# Altium integrated library Actel ProASIC3.IntLib: 427 symbols (part 16 of 68)
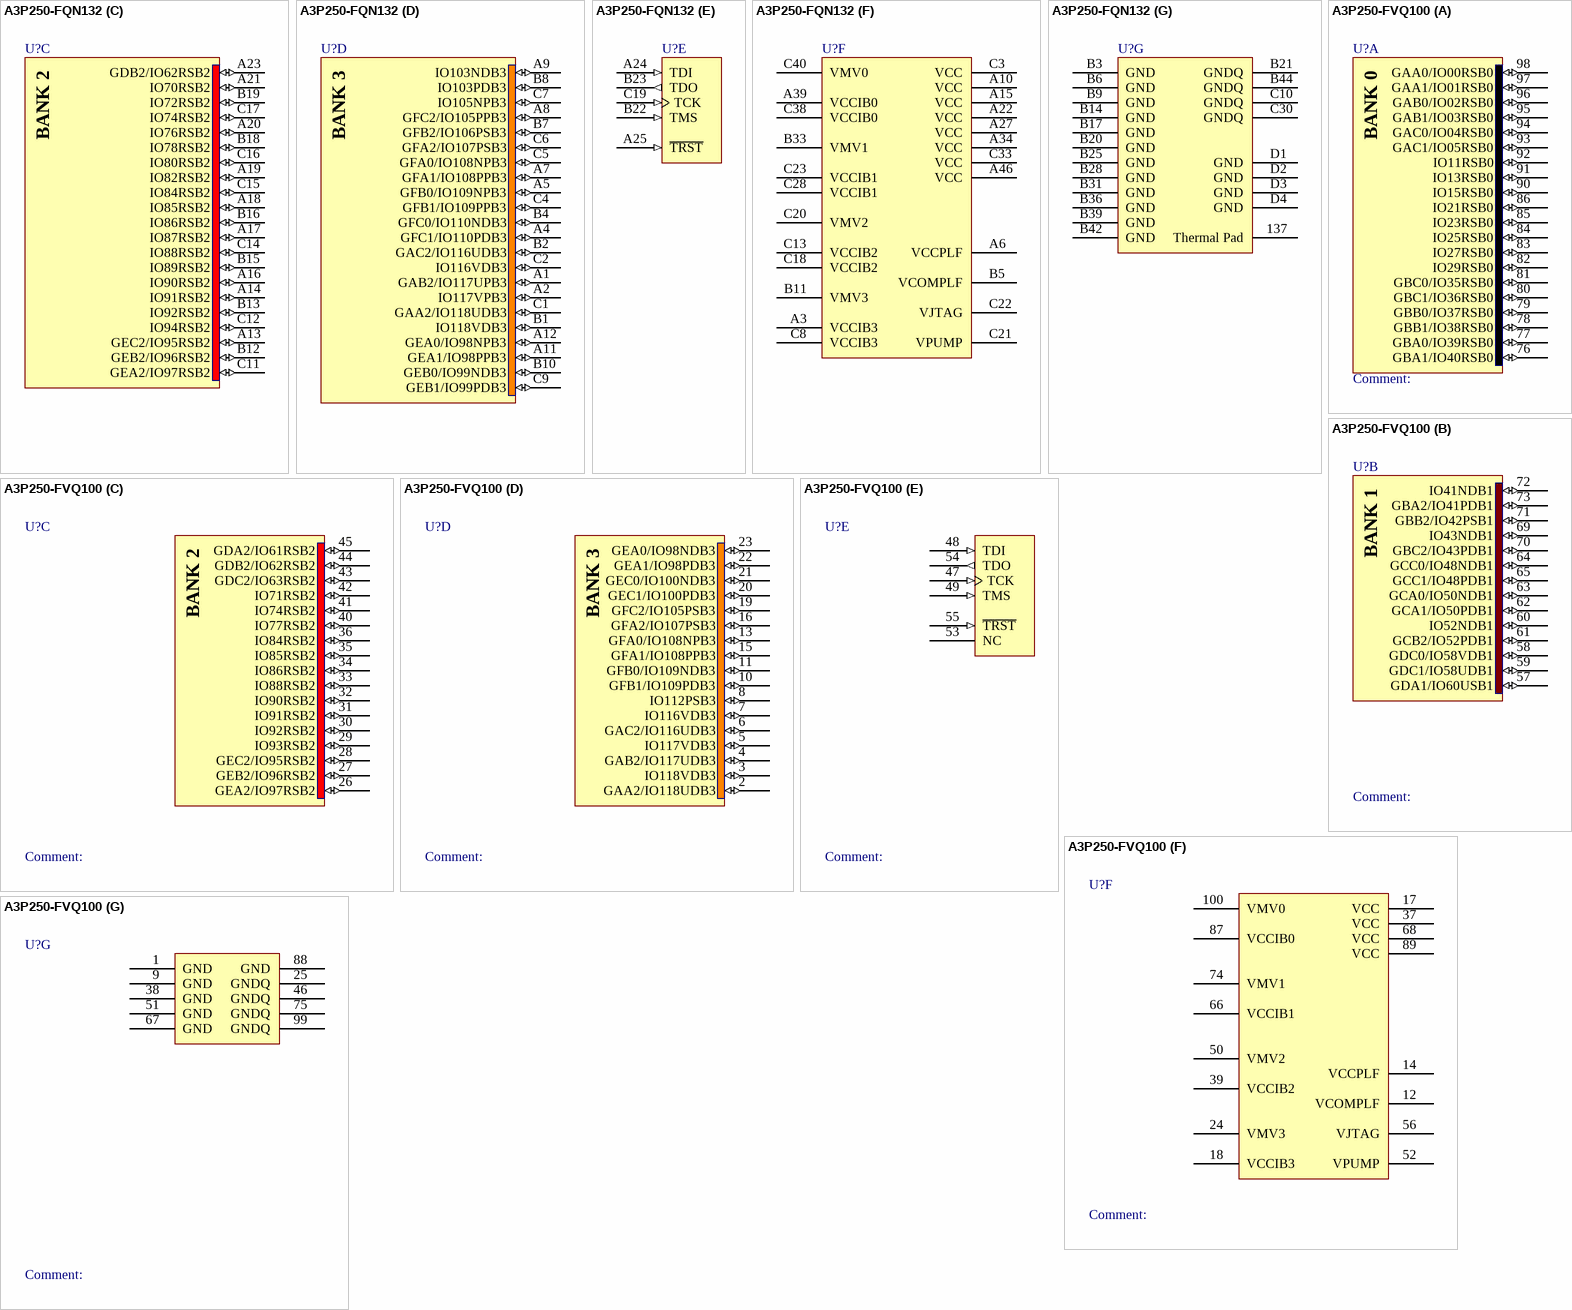
[diagram p408: symbols A3P250-FQN132 to A3P250-FVQ100]

## A3P250-FQN132
designator U?
ProASIC3 Flash Family FPGA, 87 User IOs, 250K System Gates, 36 Kbits RAM, 1 Kbit ProASIC3 Flash ROM, 1 PLL, 132-Pin QFN, Commercial Grade; Published: 30-Mar-2007; DatasheetVersion: v1.1, Feb-2009; PackageVersion: v11.0, Feb-2009; PackageReference: QN132; Publisher: Altium Limited; PackageDescription: 132-Pin Quad Flat Pack No-Leads (QN132); ComponentLink1Description: Manufacturer Link; ComponentLink1URL: http://www.actel.com/products/pa3/; ComponentLink2Description: Datasheet; ComponentLink2URL: http://www.actel.com/documents/PA3_DS.pdf; ComponentLink3Description: Packaging Specification; ComponentLink3URL: http://www.actel.com/documents/PckgMechDrwngs.pdf
footprint QN132 (QFN, 132-Leads, Body 8x8mm, Pitch 0.5mm)
3D model A3P250-QN132 (132-Pin Quad Flat Pack No-Leads (QN132))
signal-integrity model A3P250_QN132 (ProASIC3)
part A pins:  A37 GBB1/IO38RSB0 (io),  A38 GBC0/IO35RSB0 (io),  A40 IO28RSB0 (io),  A41 IO22RSB0 (io),  A42 IO18RSB0 (io),  A43 IO14RSB0 (io),  A44 IO11RSB0 (io),  A45 IO07RSB0 (io),  A47 GAC1/IO05RSB0 (io),  A48 GAB0/IO02RSB0 (io),  B34 GBA0/IO39RSB0 (io),  B35 GBC1/IO36RSB0 (io),  B37 IO26RSB0 (io),  B38 IO21RSB0 (io),  B40 IO13RSB0 (io),  B41 IO08RSB0 (io),  B43 GAC0/IO04RSB0 (io),  C31 GBA1/IO40RSB0 (io),  C32 GBB0/IO37RSB0 (io),  C34 IO24RSB0 (io),  C35 IO19RSB0 (io),  C36 IO16RSB0 (io),  C37 IO10RSB0 (io),  C39 GAB1/IO03RSB0 (io)
part B pins:  A26 GDC1/IO58UDB1 (io),  A28 IO54NDB1 (io),  A29 IO52NDB1 (io),  A30 GCA2/IO51PPB1 (io),  A31 GCA0/IO50NPB1 (io),  A32 GCB1/IO49PDB1 (io),  A33 IO47NSB1 (io),  A35 IO41NPB1 (io),  A36 GBA2/IO41PPB1 (io),  B24 GDC0/IO58VDB1 (io),  B26 IO54PDB1 (io),  B27 GCB2/IO52PDB1 (io),  B29 GCB0/IO49NDB1 (io),  B30 GCC1/IO48PDB1 (io),  B32 GBB2/IO42PDB1 (io),  C24 IO53NSB1 (io),  C25 IO51NPB1 (io),  C26 GCA1/IO50PPB1 (io),  C27 GCC0/IO48NDB1 (io),  C29 IO42NDB1 (io)
part C pins:  A13 GEC2/IO95RSB2 (io),  A14 IO91RSB2 (io),  A16 IO90RSB2 (io),  A17 IO87RSB2 (io),  A18 IO85RSB2 (io),  A19 IO82RSB2 (io),  A20 IO76RSB2 (io),  A21 IO70RSB2 (io),  A23 GDB2/IO62RSB2 (io),  B12 GEB2/IO96RSB2 (io),  B13 IO92RSB2 (io),  B15 IO89RSB2 (io),  B16 IO86RSB2 (io),  B18 IO78RSB2 (io),  B19 IO72RSB2 (io),  C11 GEA2/IO97RSB2 (io),  C12 IO94RSB2 (io),  C14 IO88RSB2 (io),  C15 IO84RSB2 (io),  C16 IO80RSB2 (io),  C17 IO74RSB2 (io)
part D pins:  A1 GAB2/IO117UPB3 (io),  A2 IO117VPB3 (io),  A4 GFC1/IO110PDB3 (io),  A5 GFB0/IO109NPB3 (io),  A7 GFA1/IO108PPB3 (io),  A8 GFC2/IO105PPB3 (io),  A9 IO103NDB3 (io),  A11 GEA1/IO98PPB3 (io),  A12 GEA0/IO98NPB3 (io),  B1 IO118VDB3 (io),  B2 GAC2/IO116UDB3 (io),  B4 GFC0/IO110NDB3 (io),  B7 GFB2/IO106PSB3 (io),  B8 IO103PDB3 (io),  B10 GEB0/IO99NDB3 (io),  C1 GAA2/IO118UDB3 (io),  C2 IO116VDB3 (io),  C4 GFB1/IO109PPB3 (io),  C5 GFA0/IO108NPB3 (io),  C6 GFA2/IO107PSB3 (io),  C7 IO105NPB3 (io),  C9 GEB1/IO99PDB3 (io)
part E pins:  A24 TDI (in),  A25 ~{TRST} (in),  B22 TMS (in),  B23 TDO (out),  C19 TCK (in)
part F pins:  A3 VCCIB3 (power),  A6 VCCPLF (power),  A10 VCC (power),  A15 VCC (power),  A22 VCC (power),  A27 VCC (power),  A34 VCC (power),  A39 VCCIB0 (power),  A46 VCC (power),  B5 VCOMPLF (power),  B11 VMV3 (power),  B33 VMV1 (power),  C3 VCC (power),  C13 VCCIB2 (power),  C18 VCCIB2 (power),  C20 VMV2 (power),  C21 VPUMP (power),  C22 VJTAG (power),  C23 VCCIB1 (power),  C28 VCCIB1 (power),  C33 VCC (power),  C38 VCCIB0 (power),  C40 VMV0 (power), C8 VCCIB3 (power)
part G pins: 137 Thermal Pad (power),  B3 GND (power),  B6 GND (power),  B9 GND (power),  B14 GND (power),  B17 GND (power),  B20 GND (power),  B21 GNDQ (power),  B25 GND (power),  B28 GND (power),  B31 GND (power),  B36 GND (power),  B39 GND (power),  B42 GND (power),  B44 GNDQ (power),  C10 GNDQ (power),  C30 GNDQ (power),  D1 GND (power),  D2 GND (power),  D3 GND (power),  D4 GND (power)
part A text: BANK 0
part B text: BANK 1
part C text: BANK 2
part D text: BANK 3

## A3P250-FVQ100
designator U?
ProASIC3 Flash Family FPGA, 68 User IOs, 250K System Gates, 36 Kbits RAM, 1 Kbit Flash ROM, 1 PLL, 100-Pin VQFP, Commercial Grade; Published: 4-Mar-2005; LatestRevisionDate: 13-Apr-2006; LatestRevisionNote: IPC-7351 Footprint Added.; DatasheetVersion: v1.1, Feb-2009; PackageVersion: v11.0, Feb-2009; PackageReference: VQ100; Publisher: Altium Limited; PackageDescription: 100-Pin Plastic Quad Flat Pack (VQ100); Code_JEDEC: MS-026-AED; ComponentLink1Description: Manufacturer Link; ComponentLink1URL: http://www.actel.com/products/pa3/; ComponentLink2Description: Datasheet; ComponentLink2URL: http://www.actel.com/documents/PA3_DS.pdf; ComponentLink3Description: Packaging Specification; ComponentLink3URL: http://www.actel.com/documents/PckgMechDrwngs.pdf
footprint VQ100_N (Thin QFP, 100-Leads, Body 14x14mm, Pitch 0.5mm, IPC Medium Density)
footprint VQ100_L (Thin QFP, 100-Leads, Body 14x14mm, Pitch 0.5mm, IPC High Density)
footprint VQ100_M (Thin QFP, 100-Leads, Body 14x14mm, Pitch 0.5mm, IPC Low Density)
3D model A3P250-VQ100 (100-Pin Plastic Quad Flat Pack (VQ100))
signal-integrity model A3P250_VQ100 (ProASIC3)
part A pins: 76 GBA1/IO40RSB0 (io), 77 GBA0/IO39RSB0 (io), 78 GBB1/IO38RSB0 (io), 79 GBB0/IO37RSB0 (io), 80 GBC1/IO36RSB0 (io), 81 GBC0/IO35RSB0 (io), 82 IO29RSB0 (io), 83 IO27RSB0 (io), 84 IO25RSB0 (io), 85 IO23RSB0 (io), 86 IO21RSB0 (io), 90 IO15RSB0 (io), 91 IO13RSB0 (io), 92 IO11RSB0 (io), 93 GAC1/IO05RSB0 (io), 94 GAC0/IO04RSB0 (io), 95 GAB1/IO03RSB0 (io), 96 GAB0/IO02RSB0 (io), 97 GAA1/IO01RSB0 (io), 98 GAA0/IO00RSB0 (io)
part B pins: 57 GDA1/IO60USB1 (io), 58 GDC0/IO58VDB1 (io), 59 GDC1/IO58UDB1 (io), 60 IO52NDB1 (io), 61 GCB2/IO52PDB1 (io), 62 GCA1/IO50PDB1 (io), 63 GCA0/IO50NDB1 (io), 64 GCC0/IO48NDB1 (io), 65 GCC1/IO48PDB1 (io), 69 IO43NDB1 (io), 70 GBC2/IO43PDB1 (io), 71 GBB2/IO42PSB1 (io), 72 IO41NDB1 (io), 73 GBA2/IO41PDB1 (io)
part C pins: 26 GEA2/IO97RSB2 (io), 27 GEB2/IO96RSB2 (io), 28 GEC2/IO95RSB2 (io), 29 IO93RSB2 (io), 30 IO92RSB2 (io), 31 IO91RSB2 (io), 32 IO90RSB2 (io), 33 IO88RSB2 (io), 34 IO86RSB2 (io), 35 IO85RSB2 (io), 36 IO84RSB2 (io), 40 IO77RSB2 (io), 41 IO74RSB2 (io), 42 IO71RSB2 (io), 43 GDC2/IO63RSB2 (io), 44 GDB2/IO62RSB2 (io), 45 GDA2/IO61RSB2 (io)
part D pins: 2 GAA2/IO118UDB3 (io), 3 IO118VDB3 (io), 4 GAB2/IO117UDB3 (io), 5 IO117VDB3 (io), 6 GAC2/IO116UDB3 (io), 7 IO116VDB3 (io), 8 IO112PSB3 (io), 10 GFB1/IO109PDB3 (io), 11 GFB0/IO109NDB3 (io), 13 GFA0/IO108NPB3 (io), 15 GFA1/IO108PPB3 (io), 16 GFA2/IO107PSB3 (io), 19 GFC2/IO105PSB3 (io), 20 GEC1/IO100PDB3 (io), 21 GEC0/IO100NDB3 (io), 22 GEA1/IO98PDB3 (io), 23 GEA0/IO98NDB3 (io)
part E pins: 47 TCK (in), 48 TDI (in), 49 TMS (in), 53 NC, 54 TDO (out), 55 ~{TRST} (in)
part F pins: 12 VCOMPLF (power), 14 VCCPLF (power), 17 VCC (power), 18 VCCIB3 (power), 24 VMV3 (power), 37 VCC (power), 39 VCCIB2 (power), 50 VMV2 (power), 52 VPUMP (power), 56 VJTAG (power), 66 VCCIB1 (power), 68 VCC (power), 74 VMV1 (power), 87 VCCIB0 (power), 89 VCC (power), 100 VMV0 (power)
part G pins: 1 GND (power), 9 GND (power), 25 GNDQ (power), 38 GND (power), 46 GNDQ (power), 51 GND (power), 67 GND (power), 75 GNDQ (power), 88 GND (power), 99 GNDQ (power)
part A text: BANK 0
part B text: BANK 1
part C text: BANK 2
part D text: BANK 3

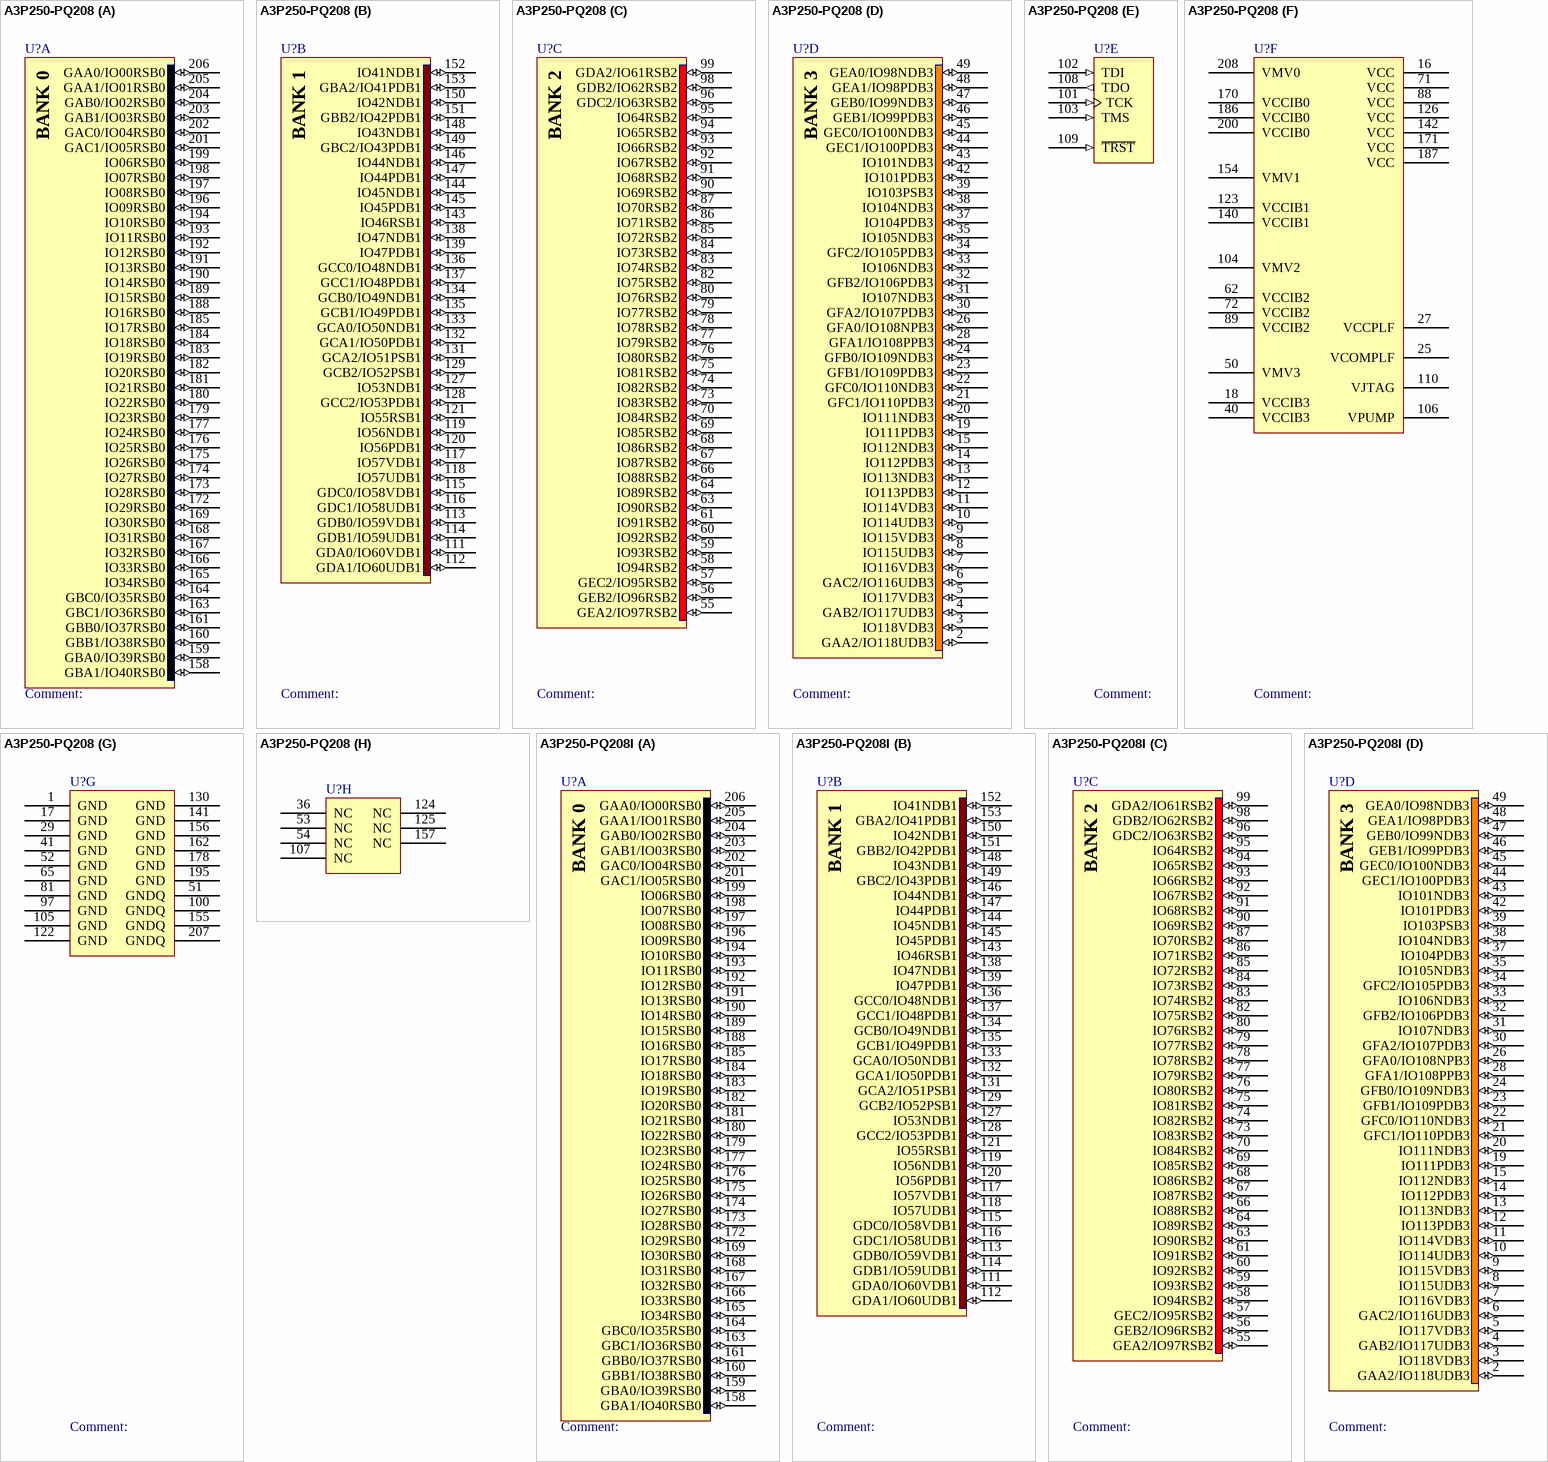
[diagram p66: symbols A3P250-PQ208 to A3P250-PQ208I]